# Altium schematic symbol library CUSTOM IND.SchLib: 1 symbol
Pins are listed as number, name and electrical type; pins without a type are passive.

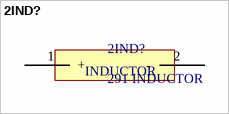
[diagram p0: symbol 2IND?]

## 2IND?
designator 2IND?, comment 291 INDUCTOR
footprint 3 CM INDUCTOR
pins: 1 +, 2 -
text: INDUCTOR